# Altium schematic symbol library PassivePrimitives.SchLib: 9 symbols
Pins are listed as number, name and electrical type; pins without a type are passive.

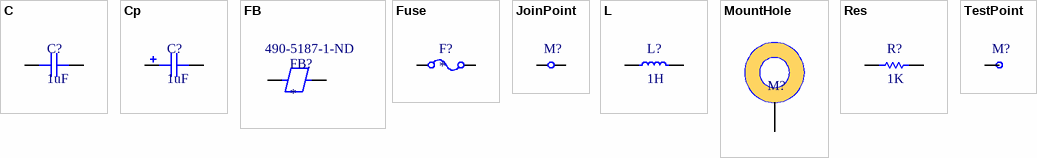
[diagram p0: symbols C to TestPoint]

## C
designator C?, comment 1uF
Generic capacitor; Value: 1uF
footprint SMD1005X04L (SMD 0402, 2-Leads, Body 1.00x0.50mm, IPC High Density)
footprint SMD1608X05L (SMD 0603, 2-Leads, Body 1.57x0.85mm, IPC High Density)
footprint SMD2012X05L (SMD 0805, 2-Leads, Body 2.00x1.25mm, IPC High Density)
pins: 1, 2

## Cp
designator C?, comment 1uF
Generic Polarized capacitor; Value: 1uF
footprint PANASONIC_CAP_SMD_F12
footprint TC2917_7343 (2917 (7343 Metric) Tantalum Capacitor)
footprint TC1411_3528 (1411 (3528 Metric) Tantalum Capacitor)
footprint PANASONIC_CAP_SMD_H13 (Panasonic H13 aluminium capacitor)
pins: 1, 2

## FB
designator FB?  Supplier Part Number 1: 490-5187-1-ND
Ferrite Bead; Supplier 1: Digi-Key
pins: 1, 2

## Fuse
designator F?
Generic Fuse
footprint FUSE_1812_4532_Concave
footprint FUSE_1206_3216_Concave_Long_Side (1206 (3216 Metric), Concave, Long Side Terminals)
pins: 1, 2

## JoinPoint
designator M?  (value not drawn)  (net tie, no BOM)
Joint Point
footprint Point
pins: 1, 2

## L
designator L?, comment 1H
Generic Inductor; Value: 1H
pins: 1, 2

## MountHole
designator M?  (value not drawn)
footprint MountHOle (Mount hole)
pins: 0

## Res
designator R?, comment 1K
Value: 1K
footprint SMD1005X04L (SMD 0402, 2-Leads, Body 1.00x0.50mm, IPC High Density)
footprint SMD1608X05L (SMD 0603, 2-Leads, Body 1.57x0.85mm, IPC High Density)
footprint SMD2012X05L (SMD 0805, 2-Leads, Body 2.00x1.25mm, IPC High Density)
pins: 1, 2

## TestPoint
designator M?  (value not drawn)
Test Point
footprint TESTPADROUND1x1mm
pins: 1